# Altium schematic symbol library R_IEC.SchLib: 12 symbols
Pins are listed as number, name and electrical type; pins without a type are passive.

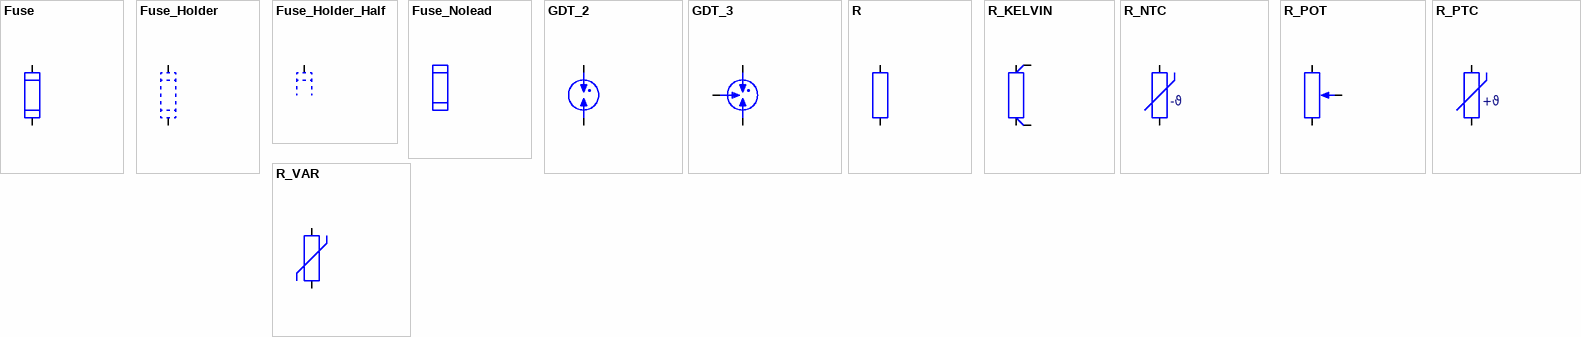
[diagram p0: symbols Fuse to R_VAR]

## Fuse
designator F?
Generic fuse symbol / European drawing style
pins: 1, 2

## Fuse_Holder
designator F?
Generic fuse holder symbol / European drawing style
pins: 1, 2

## Fuse_Holder_Half
designator F?
Generic fuse holder symbol / European drawing style
pins: 1

## Fuse_Nolead
designator F?
Generic fuse symbol without leads / European drawing style

## GDT_2
designator R?
Generic sparkgap symbol
pins: 1, 2

## GDT_3
designator R?
Generic sparkgap symbol
pins: 1, 2, 3

## R
designator R?
Generic resistor symbol / European drawing style
pins: 1, 2

## R_KELVIN
designator R?
Generic resistor symbol with kelvin connection / European drawing style
pins: 1, 1K, 2, 2K

## R_NTC
designator R?
Generic negative temperature coefficient (NTC) resistor symbol / European drawing style
pins: 1, 2
text: -ϑ

## R_POT
designator R?
Generic potentiometer symbol / European drawing style
pins: 1, 2, 3

## R_PTC
designator R?
Generic positive temperature coefficient (PTC) resistor symbol / European drawing style
pins: 1, 2
text: +ϑ

## R_VAR
designator R?
Generic VARISTOR / European drawing style
pins: 1, 2